# Altium schematic symbol library 015403P5DRT.SchLib: 2 symbols
Pins are listed as number, name and electrical type; pins without a type are passive.

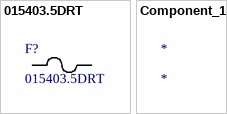
[diagram p0: symbols 015403.5DRT to Component_1]

## 015403.5DRT
designator F?
No Description Available; Mfr_Name: Littelfuse Inc; Type: DEV; Copyright: Copyright (C) 2022 Ultra Librarian. All rights reserved.; Manufacturer_Part_Number: 015403.5DRT; RefDes: RefDes
footprint 0154Series_LTF
pins: 1, 2

## Component_1
designator *